# Altium integrated library Analog_Devices_Power_Management_Linear_Regulators.IntLib: 441 symbols (part 1 of 23)
Pins are listed as number, name and electrical type; pins without a type are passive.

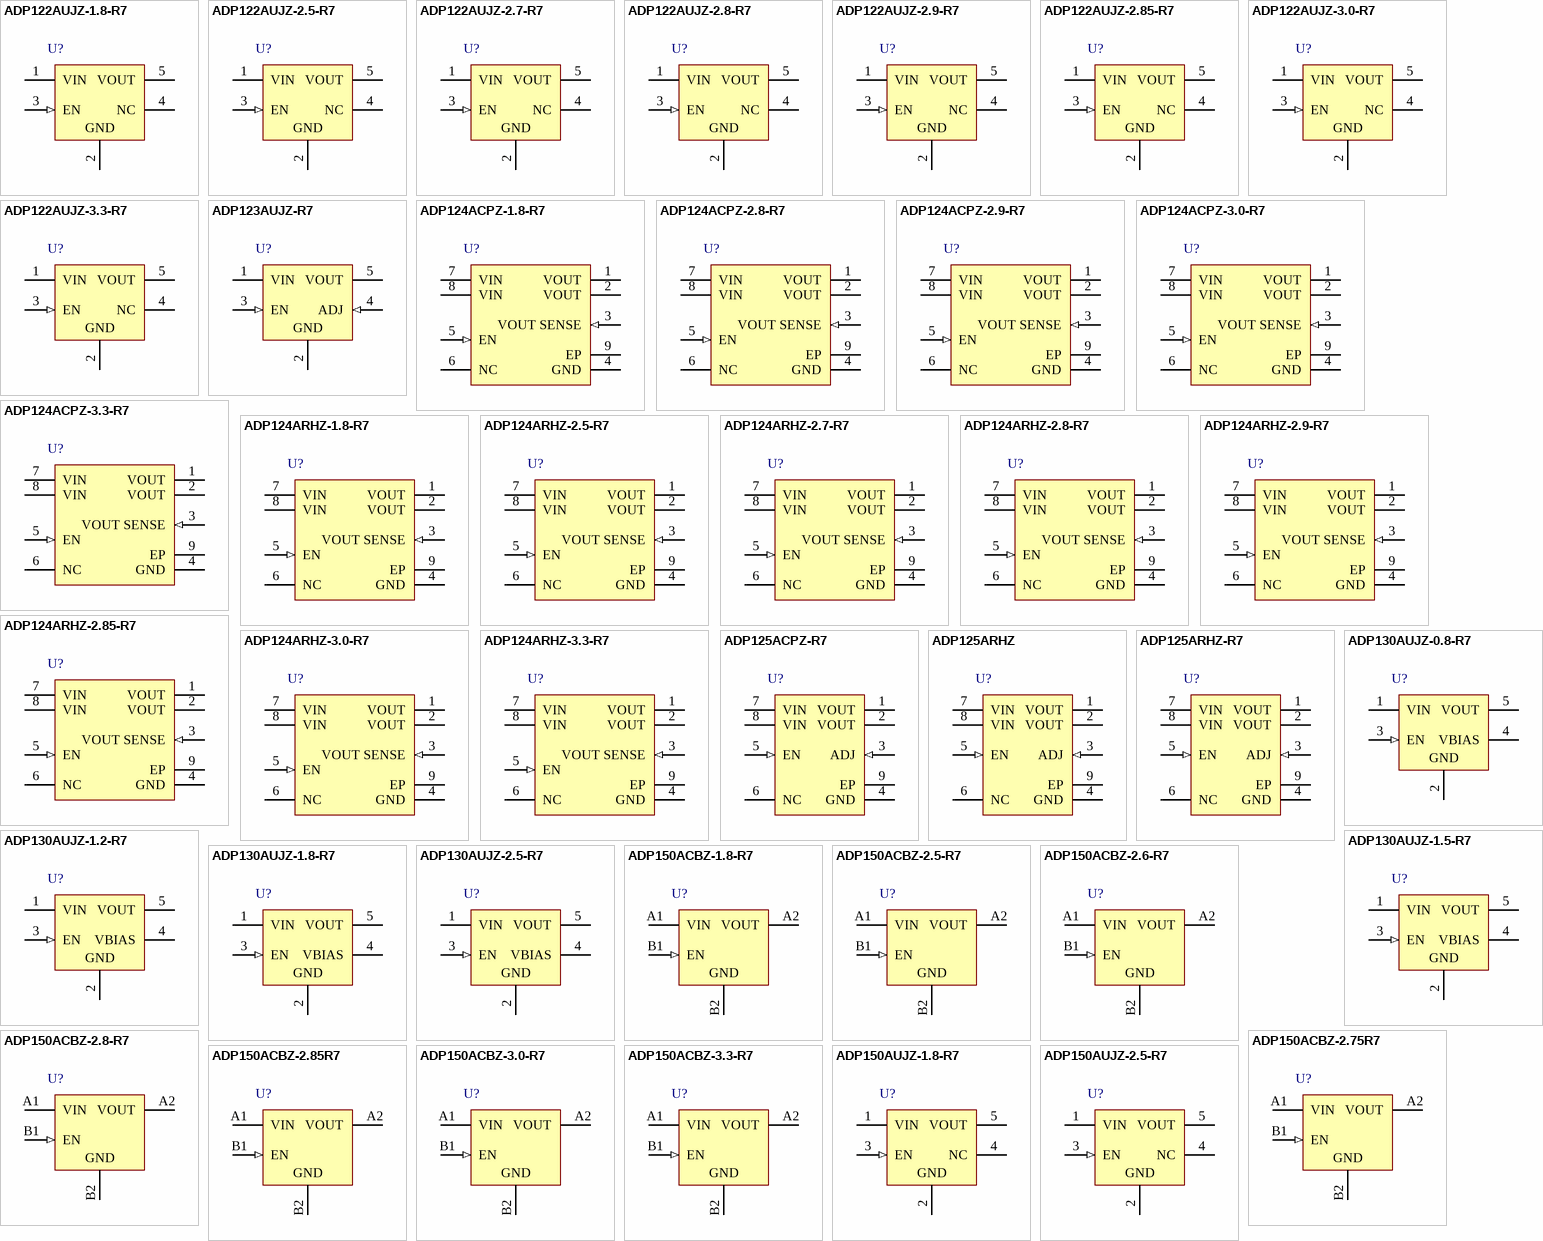
[diagram p0: symbols ADP122AUJZ-1.8-R7 to ADP150AUJZ-2.5-R7]

## ADP122AUJZ-1.8-R7
designator U?
300 mA, Low Quiescent Current, CMOS Linear Regulator, 2.3 to 5.5 V Vin, 1.8 V Vout, Industrial, 5-pin SOT23 (UJ-5), Reel; Manufacturer: Analog Devices; PartNumber: ADP122AUJZ-1.8-R7; Iout max: 300mA; Preset Vout Values (V): 1.8; Supply Current IGND @ Small Load: 45uA; Vin (max) (V): 5.5; Vin (min) (V): 2.3; DatasheetVersion: Rev. E; PackageVersion: 100708-A, 10/2008; PackageReference: UJ-5; PackageDescription: 5-Pin Thin Small Outline Transistor Package, Body 2.9 x 1.6 mm, Pitch 0.95 mm; Supplier 1: Newark; Supplier Part Number 1: 04X3007; Supplier 2: Mouser; Supplier Part Number 2: N/A; Packing: Reel; Mounting Technology: Surface Mount; Code_JEDEC: MO-193-AB; ComponentLink1Description: Manufacturer URL; ComponentLink1URL: http://www.analog.com/en/index.html; ComponentLink2Description: Datasheet; ComponentLink2URL: http://www.analog.com/static/imported-files/data_sheets/ADP122_123.pdf; ComponentLink3Description: Package Specification; ComponentLink3URL: http:/www.analog.com/static/imported-files/packages/PKG_PDF/TSOT(UJ)/UJ_5.pdf; ComponentLink4Description: URL Link1; ComponentLink4URL: Product URL:http://www.analog.com/en/ADP122/productSearch.html
footprint ADI-UJ-5_N (SOT23, 5-Leads, Body 2.9x1.6mm, Pitch 0.95mm, IPC Medium Density)
footprint ADI-UJ-5_L (SOT23, 5-Leads, Body 2.9x1.6mm, Pitch 0.95mm, IPC High Density)
footprint ADI-UJ-5_M (SOT23, 5-Leads, Body 2.9x1.6mm, Pitch 0.95mm, IPC Low Density)
pins: 1 VIN (power) "Regulator Input Supply. Bypass VIN to GND with a capacitor of at least 1 uF.", 2 GND (power) "Ground.", 3 EN (in) "Enable Input. Drive EN high to turn on the regulator; drive EN low to turn off the regulator. For automatic startup, connect EN to VIN.", 4 NC "No Connect. These pins are not internally bonded. They can be left floating or connected to ground.", 5 VOUT (power) "Regulated Output Voltage. Bypass VOUT to GND with a capacitor of at least 1 uF."

## ADP122AUJZ-2.5-R7
designator U?
300 mA, Low Quiescent Current, CMOS Linear Regulator, 2.3 to 5.5 V Vin, 2.5 V Vout, Industrial, 5-pin SOT23 (UJ-5), Reel; Manufacturer: Analog Devices; PartNumber: ADP122AUJZ-2.5-R7; Iout max: 300mA; Preset Vout Values (V): 2.5; Supply Current IGND @ Small Load: 45uA; Vin (max) (V): 5.5; Vin (min) (V): 2.3; DatasheetVersion: Rev. E; PackageVersion: 100708-A, 10/2008; PackageReference: UJ-5; PackageDescription: 5-Pin Thin Small Outline Transistor Package, Body 2.9 x 1.6 mm, Pitch 0.95 mm; Supplier 1: Digi-Key; Supplier Part Number 1: ADP122AUJZ-2.5-R7TR-ND; Supplier 2: Digi-Key; Supplier Part Number 2: ADP122AUJZ-2.5-R7CT-ND; Supplier 3: Digi-Key; Supplier Part Number 3: ADP122AUJZ-2.5-R7DKR-ND; Supplier 4: Farnell; Supplier Part Number 4: 2312867; Supplier 5: Newark; Supplier Part Number 5: 67W2679; Supplier 6: Newark; Supplier Part Number 6: 52R8075; Supplier 7: Mouser; Supplier Part Number 7: 584-ADP122AUJZ-2.5R7; Packing: Reel; Mounting Technology: Surface Mount; Code_JEDEC: MO-193-AB; ComponentLink1Description: Manufacturer URL; ComponentLink1URL: http://www.analog.com/en/index.html; ComponentLink2Description: Datasheet; ComponentLink2URL: http://www.analog.com/static/imported-files/data_sheets/ADP122_123.pdf; ComponentLink3Description: Package Specification; ComponentLink3URL: http:/www.analog.com/static/imported-files/packages/PKG_PDF/TSOT(UJ)/UJ_5.pdf; ComponentLink4Description: URL Link1; ComponentLink4URL: Product URL:http://www.analog.com/en/ADP122/productSearch.html
footprint ADI-UJ-5_N (SOT23, 5-Leads, Body 2.9x1.6mm, Pitch 0.95mm, IPC Medium Density)
footprint ADI-UJ-5_L (SOT23, 5-Leads, Body 2.9x1.6mm, Pitch 0.95mm, IPC High Density)
footprint ADI-UJ-5_M (SOT23, 5-Leads, Body 2.9x1.6mm, Pitch 0.95mm, IPC Low Density)
pins: 1 VIN (power) "Regulator Input Supply. Bypass VIN to GND with a capacitor of at least 1 uF.", 2 GND (power) "Ground.", 3 EN (in) "Enable Input. Drive EN high to turn on the regulator; drive EN low to turn off the regulator. For automatic startup, connect EN to VIN.", 4 NC "No Connect. These pins are not internally bonded. They can be left floating or connected to ground.", 5 VOUT (power) "Regulated Output Voltage. Bypass VOUT to GND with a capacitor of at least 1 uF."

## ADP122AUJZ-2.7-R7
designator U?
300 mA, Low Quiescent Current, CMOS Linear Regulator, 2.3 to 5.5 V Vin, 2.7 V Vout, Industrial, 5-pin SOT23 (UJ-5), Reel; Manufacturer: Analog Devices; PartNumber: ADP122AUJZ-2.7-R7; Iout max: 300mA; Preset Vout Values (V): 2.7; Supply Current IGND @ Small Load: 45uA; Vin (max) (V): 5.5; Vin (min) (V): 2.3; DatasheetVersion: Rev. E; PackageVersion: 100708-A, 10/2008; PackageReference: UJ-5; PackageDescription: 5-Pin Thin Small Outline Transistor Package, Body 2.9 x 1.6 mm, Pitch 0.95 mm; Supplier 1: Digi-Key; Supplier Part Number 1: ADP122AUJZ-2.7-R7TR-ND; Supplier 2: Digi-Key; Supplier Part Number 2: ADP122AUJZ-2.7-R7CT-ND; Supplier 3: Digi-Key; Supplier Part Number 3: ADP122AUJZ-2.7-R7DKR-ND; Supplier 4: Newark; Supplier Part Number 4: 52R8076; Supplier 5: Mouser; Supplier Part Number 5: 584-ADP122AUJZ-2.7R7; Packing: Reel; Mounting Technology: Surface Mount; Code_JEDEC: MO-193-AB; ComponentLink1Description: Manufacturer URL; ComponentLink1URL: http://www.analog.com/en/index.html; ComponentLink2Description: Datasheet; ComponentLink2URL: http://www.analog.com/static/imported-files/data_sheets/ADP122_123.pdf; ComponentLink3Description: Package Specification; ComponentLink3URL: http:/www.analog.com/static/imported-files/packages/PKG_PDF/TSOT(UJ)/UJ_5.pdf; ComponentLink4Description: URL Link1; ComponentLink4URL: Product URL:http://www.analog.com/en/ADP122/productSearch.html
footprint ADI-UJ-5_N (SOT23, 5-Leads, Body 2.9x1.6mm, Pitch 0.95mm, IPC Medium Density)
footprint ADI-UJ-5_L (SOT23, 5-Leads, Body 2.9x1.6mm, Pitch 0.95mm, IPC High Density)
footprint ADI-UJ-5_M (SOT23, 5-Leads, Body 2.9x1.6mm, Pitch 0.95mm, IPC Low Density)
pins: 1 VIN (power) "Regulator Input Supply. Bypass VIN to GND with a capacitor of at least 1 uF.", 2 GND (power) "Ground.", 3 EN (in) "Enable Input. Drive EN high to turn on the regulator; drive EN low to turn off the regulator. For automatic startup, connect EN to VIN.", 4 NC "No Connect. These pins are not internally bonded. They can be left floating or connected to ground.", 5 VOUT (power) "Regulated Output Voltage. Bypass VOUT to GND with a capacitor of at least 1 uF."

## ADP122AUJZ-2.8-R7
designator U?
300 mA, Low Quiescent Current, CMOS Linear Regulator, 2.3 to 5.5 V Vin, 2.8 V Vout, Industrial, 5-pin SOT23 (UJ-5), Reel; Manufacturer: Analog Devices; PartNumber: ADP122AUJZ-2.8-R7; Iout max: 300mA; Preset Vout Values (V): 2.8; Supply Current IGND @ Small Load: 45uA; Vin (max) (V): 5.5; Vin (min) (V): 2.3; DatasheetVersion: Rev. E; PackageVersion: 100708-A, 10/2008; PackageReference: UJ-5; PackageDescription: 5-Pin Thin Small Outline Transistor Package, Body 2.9 x 1.6 mm, Pitch 0.95 mm; Supplier 1: Digi-Key; Supplier Part Number 1: ADP122AUJZ-2.8-R7TR-ND; Supplier 2: Digi-Key; Supplier Part Number 2: ADP122AUJZ-2.8-R7CT-ND; Supplier 3: Digi-Key; Supplier Part Number 3: ADP122AUJZ-2.8-R7DKR-ND; Supplier 4: Newark; Supplier Part Number 4: 52R8077; Supplier 5: Mouser; Supplier Part Number 5: 584-ADP122AUJZ-2.8R7; Packing: Reel; Mounting Technology: Surface Mount; Code_JEDEC: MO-193-AB; ComponentLink1Description: Manufacturer URL; ComponentLink1URL: http://www.analog.com/en/index.html; ComponentLink2Description: Datasheet; ComponentLink2URL: http://www.analog.com/static/imported-files/data_sheets/ADP122_123.pdf; ComponentLink3Description: Package Specification; ComponentLink3URL: http:/www.analog.com/static/imported-files/packages/PKG_PDF/TSOT(UJ)/UJ_5.pdf; ComponentLink4Description: URL Link1; ComponentLink4URL: Product URL:http://www.analog.com/en/ADP122/productSearch.html
footprint ADI-UJ-5_N (SOT23, 5-Leads, Body 2.9x1.6mm, Pitch 0.95mm, IPC Medium Density)
footprint ADI-UJ-5_L (SOT23, 5-Leads, Body 2.9x1.6mm, Pitch 0.95mm, IPC High Density)
footprint ADI-UJ-5_M (SOT23, 5-Leads, Body 2.9x1.6mm, Pitch 0.95mm, IPC Low Density)
pins: 1 VIN (power) "Regulator Input Supply. Bypass VIN to GND with a capacitor of at least 1 uF.", 2 GND (power) "Ground.", 3 EN (in) "Enable Input. Drive EN high to turn on the regulator; drive EN low to turn off the regulator. For automatic startup, connect EN to VIN.", 4 NC "No Connect. These pins are not internally bonded. They can be left floating or connected to ground.", 5 VOUT (power) "Regulated Output Voltage. Bypass VOUT to GND with a capacitor of at least 1 uF."

## ADP122AUJZ-2.9-R7
designator U?
300 mA, Low Quiescent Current, CMOS Linear Regulator, 2.3 to 5.5 V Vin, 2.9 V Vout, Industrial, 5-pin SOT23 (UJ-5), Reel; Manufacturer: Analog Devices; PartNumber: ADP122AUJZ-2.9-R7; Iout max: 300mA; Preset Vout Values (V): 2.9; Supply Current IGND @ Small Load: 45uA; Vin (max) (V): 5.5; Vin (min) (V): 2.3; DatasheetVersion: Rev. E; PackageVersion: 100708-A, 10/2008; PackageReference: UJ-5; PackageDescription: 5-Pin Thin Small Outline Transistor Package, Body 2.9 x 1.6 mm, Pitch 0.95 mm; Supplier 1: Digi-Key; Supplier Part Number 1: ADP122AUJZ-2.9-R7TR-ND; Supplier 2: Digi-Key; Supplier Part Number 2: ADP122AUJZ-2.9-R7CT-ND; Supplier 3: Digi-Key; Supplier Part Number 3: ADP122AUJZ-2.9-R7DKR-ND; Supplier 4: Mouser; Supplier Part Number 4: 584-ADP122AUJZ-2.9R7; Packing: Reel; Mounting Technology: Surface Mount; Code_JEDEC: MO-193-AB; ComponentLink1Description: Manufacturer URL; ComponentLink1URL: http://www.analog.com/en/index.html; ComponentLink2Description: Datasheet; ComponentLink2URL: http://www.analog.com/static/imported-files/data_sheets/ADP122_123.pdf; ComponentLink3Description: Package Specification; ComponentLink3URL: http:/www.analog.com/static/imported-files/packages/PKG_PDF/TSOT(UJ)/UJ_5.pdf; ComponentLink4Description: URL Link1; ComponentLink4URL: Product URL:http://www.analog.com/en/ADP122/productSearch.html
footprint ADI-UJ-5_N (SOT23, 5-Leads, Body 2.9x1.6mm, Pitch 0.95mm, IPC Medium Density)
footprint ADI-UJ-5_L (SOT23, 5-Leads, Body 2.9x1.6mm, Pitch 0.95mm, IPC High Density)
footprint ADI-UJ-5_M (SOT23, 5-Leads, Body 2.9x1.6mm, Pitch 0.95mm, IPC Low Density)
pins: 1 VIN (power) "Regulator Input Supply. Bypass VIN to GND with a capacitor of at least 1 uF.", 2 GND (power) "Ground.", 3 EN (in) "Enable Input. Drive EN high to turn on the regulator; drive EN low to turn off the regulator. For automatic startup, connect EN to VIN.", 4 NC "No Connect. These pins are not internally bonded. They can be left floating or connected to ground.", 5 VOUT (power) "Regulated Output Voltage. Bypass VOUT to GND with a capacitor of at least 1 uF."

## ADP122AUJZ-2.85-R7
designator U?
300 mA, Low Quiescent Current, CMOS Linear Regulator, 2.3 to 5.5 V Vin, 2.85 V Vout, Industrial, 5-pin SOT23 (UJ-5), Reel; Manufacturer: Analog Devices; PartNumber: ADP122AUJZ-2.85-R7; Iout max: 300mA; Preset Vout Values (V): 2.85; Supply Current IGND @ Small Load: 45uA; Vin (max) (V): 5.5; Vin (min) (V): 2.3; DatasheetVersion: Rev. E; PackageVersion: 100708-A, 10/2008; PackageReference: UJ-5; PackageDescription: 5-Pin Thin Small Outline Transistor Package, Body 2.9 x 1.6 mm, Pitch 0.95 mm; Supplier 1: Digi-Key; Supplier Part Number 1: ADP122AUJZ-2.85-R7TR-ND; Supplier 2: Digi-Key; Supplier Part Number 2: ADP122AUJZ-2.85-R7CT-ND; Supplier 3: Digi-Key; Supplier Part Number 3: ADP122AUJZ-2.85-R7DKR-ND; Supplier 4: Mouser; Supplier Part Number 4: 584-ADP122AUJZ2.85R7; Packing: Reel; Mounting Technology: Surface Mount; Code_JEDEC: MO-193-AB; ComponentLink1Description: Manufacturer URL; ComponentLink1URL: http://www.analog.com/en/index.html; ComponentLink2Description: Datasheet; ComponentLink2URL: http://www.analog.com/static/imported-files/data_sheets/ADP122_123.pdf; ComponentLink3Description: Package Specification; ComponentLink3URL: http:/www.analog.com/static/imported-files/packages/PKG_PDF/TSOT(UJ)/UJ_5.pdf; ComponentLink4Description: URL Link1; ComponentLink4URL: Product URL:http://www.analog.com/en/ADP122/productSearch.html
footprint ADI-UJ-5_N (SOT23, 5-Leads, Body 2.9x1.6mm, Pitch 0.95mm, IPC Medium Density)
footprint ADI-UJ-5_L (SOT23, 5-Leads, Body 2.9x1.6mm, Pitch 0.95mm, IPC High Density)
footprint ADI-UJ-5_M (SOT23, 5-Leads, Body 2.9x1.6mm, Pitch 0.95mm, IPC Low Density)
pins: 1 VIN (power) "Regulator Input Supply. Bypass VIN to GND with a capacitor of at least 1 uF.", 2 GND (power) "Ground.", 3 EN (in) "Enable Input. Drive EN high to turn on the regulator; drive EN low to turn off the regulator. For automatic startup, connect EN to VIN.", 4 NC "No Connect. These pins are not internally bonded. They can be left floating or connected to ground.", 5 VOUT (power) "Regulated Output Voltage. Bypass VOUT to GND with a capacitor of at least 1 uF."

## ADP122AUJZ-3.0-R7
designator U?
300 mA, Low Quiescent Current, CMOS Linear Regulator, 2.3 to 5.5 V Vin, 3 V Vout, Industrial, 5-pin SOT23 (UJ-5), Reel; Manufacturer: Analog Devices; PartNumber: ADP122AUJZ-3.0-R7; Iout max: 300mA; Preset Vout Values (V): 3.0; Supply Current IGND @ Small Load: 45uA; Vin (max) (V): 5.5; Vin (min) (V): 2.3; DatasheetVersion: Rev. E; PackageVersion: 100708-A, 10/2008; PackageReference: UJ-5; PackageDescription: 5-Pin Thin Small Outline Transistor Package, Body 2.9 x 1.6 mm, Pitch 0.95 mm; Supplier 1: Digi-Key; Supplier Part Number 1: ADP122AUJZ-3.0-R7TR-ND; Supplier 2: Digi-Key; Supplier Part Number 2: ADP122AUJZ-3.0-R7CT-ND; Supplier 3: Digi-Key; Supplier Part Number 3: ADP122AUJZ-3.0-R7DKR-ND; Supplier 4: Farnell; Supplier Part Number 4: 2312868; Supplier 5: Newark; Supplier Part Number 5: 67W2680; Supplier 6: Newark; Supplier Part Number 6: 52R8080; Supplier 7: Mouser; Supplier Part Number 7: 584-ADP122AUJZ-3.0R7; Packing: Reel; Mounting Technology: Surface Mount; Code_JEDEC: MO-193-AB; ComponentLink1Description: Manufacturer URL; ComponentLink1URL: http://www.analog.com/en/index.html; ComponentLink2Description: Datasheet; ComponentLink2URL: http://www.analog.com/static/imported-files/data_sheets/ADP122_123.pdf; ComponentLink3Description: Package Specification; ComponentLink3URL: http:/www.analog.com/static/imported-files/packages/PKG_PDF/TSOT(UJ)/UJ_5.pdf; ComponentLink4Description: URL Link1; ComponentLink4URL: Product URL:http://www.analog.com/en/ADP122/productSearch.html
footprint ADI-UJ-5_N (SOT23, 5-Leads, Body 2.9x1.6mm, Pitch 0.95mm, IPC Medium Density)
footprint ADI-UJ-5_L (SOT23, 5-Leads, Body 2.9x1.6mm, Pitch 0.95mm, IPC High Density)
footprint ADI-UJ-5_M (SOT23, 5-Leads, Body 2.9x1.6mm, Pitch 0.95mm, IPC Low Density)
pins: 1 VIN (power) "Regulator Input Supply. Bypass VIN to GND with a capacitor of at least 1 uF.", 2 GND (power) "Ground.", 3 EN (in) "Enable Input. Drive EN high to turn on the regulator; drive EN low to turn off the regulator. For automatic startup, connect EN to VIN.", 4 NC "No Connect. These pins are not internally bonded. They can be left floating or connected to ground.", 5 VOUT (power) "Regulated Output Voltage. Bypass VOUT to GND with a capacitor of at least 1 uF."

## ADP122AUJZ-3.3-R7
designator U?
300 mA, Low Quiescent Current, CMOS Linear Regulator, 2.3 to 5.5 V Vin, 3.3 V Vout, Industrial, 5-pin SOT23 (UJ-5), Reel; Manufacturer: Analog Devices; PartNumber: ADP122AUJZ-3.3-R7; Iout max: 300mA; Preset Vout Values (V): 3.3; Supply Current IGND @ Small Load: 45uA; Vin (max) (V): 5.5; Vin (min) (V): 2.3; DatasheetVersion: Rev. E; PackageVersion: 100708-A, 10/2008; PackageReference: UJ-5; PackageDescription: 5-Pin Thin Small Outline Transistor Package, Body 2.9 x 1.6 mm, Pitch 0.95 mm; Supplier 1: Digi-Key; Supplier Part Number 1: ADP122AUJZ-3.3-R7TR-ND; Supplier 2: Digi-Key; Supplier Part Number 2: ADP122AUJZ-3.3-R7CT-ND; Supplier 3: Digi-Key; Supplier Part Number 3: ADP122AUJZ-3.3-R7DKR-ND; Supplier 4: Farnell; Supplier Part Number 4: 1858064RL; Supplier 5: Farnell; Supplier Part Number 5: 1858064; Supplier 6: Newark; Supplier Part Number 6: 60R3274; Supplier 7: Newark; Supplier Part Number 7: 52R8081; Supplier 8: Mouser; Supplier Part Number 8: 584-ADP122AUJZ-3.3R7; Packing: Reel; Mounting Technology: Surface Mount; Code_JEDEC: MO-193-AB; ComponentLink1Description: Manufacturer URL; ComponentLink1URL: http://www.analog.com/en/index.html; ComponentLink2Description: Datasheet; ComponentLink2URL: http://www.analog.com/static/imported-files/data_sheets/ADP122_123.pdf; ComponentLink3Description: Package Specification; ComponentLink3URL: http:/www.analog.com/static/imported-files/packages/PKG_PDF/TSOT(UJ)/UJ_5.pdf; ComponentLink4Description: URL Link1; ComponentLink4URL: Product URL:http://www.analog.com/en/ADP122/productSearch.html
footprint ADI-UJ-5_N (SOT23, 5-Leads, Body 2.9x1.6mm, Pitch 0.95mm, IPC Medium Density)
footprint ADI-UJ-5_L (SOT23, 5-Leads, Body 2.9x1.6mm, Pitch 0.95mm, IPC High Density)
footprint ADI-UJ-5_M (SOT23, 5-Leads, Body 2.9x1.6mm, Pitch 0.95mm, IPC Low Density)
pins: 1 VIN (power) "Regulator Input Supply. Bypass VIN to GND with a capacitor of at least 1 uF.", 2 GND (power) "Ground.", 3 EN (in) "Enable Input. Drive EN high to turn on the regulator; drive EN low to turn off the regulator. For automatic startup, connect EN to VIN.", 4 NC "No Connect. These pins are not internally bonded. They can be left floating or connected to ground.", 5 VOUT (power) "Regulated Output Voltage. Bypass VOUT to GND with a capacitor of at least 1 uF."

## ADP123AUJZ-R7
designator U?
300 mA, Low Quiescent Current, CMOS Linear Regulator, 2.3 to 5.5 V Vin, 0.8 to 5 V Vout, Industrial, 5-pin SOT23 (UJ-5), Reel; Manufacturer: Analog Devices; PartNumber: ADP123AUJZ-R7; Iout max: 300mA; Supply Current IGND @ Small Load: 45uA; Vin (max) (V): 5.5; Vin (min) (V): 2.3; Vout Adjustable Range: 0.8V to 5V; DatasheetVersion: Rev. E; PackageVersion: 100708-A, 10/2008; PackageReference: UJ-5; PackageDescription: 5-Pin Thin Small Outline Transistor Package, Body 2.9 x 1.6 mm, Pitch 0.95 mm; Supplier 1: Digi-Key; Supplier Part Number 1: ADP123AUJZ-R7TR-ND; Supplier 2: Digi-Key; Supplier Part Number 2: ADP123AUJZ-R7CT-ND; Supplier 3: Digi-Key; Supplier Part Number 3: ADP123AUJZ-R7DKR-ND; Supplier 4: Farnell; Supplier Part Number 4: 2296039; Supplier 5: Newark; Supplier Part Number 5: 12T2968; Supplier 6: Newark; Supplier Part Number 6: 52R8082; Supplier 7: Mouser; Supplier Part Number 7: 584-ADP123AUJZ-R7; Packing: Reel; Mounting Technology: Surface Mount; Code_JEDEC: MO-193-AB; ComponentLink1Description: Manufacturer URL; ComponentLink1URL: http://www.analog.com/en/index.html; ComponentLink2Description: Datasheet; ComponentLink2URL: http://www.analog.com/static/imported-files/data_sheets/ADP122_123.pdf; ComponentLink3Description: Package Specification; ComponentLink3URL: http:/www.analog.com/static/imported-files/packages/PKG_PDF/TSOT(UJ)/UJ_5.pdf; ComponentLink4Description: URL Link1; ComponentLink4URL: Product URL:http://www.analog.com/en/ADP123/productSearch.html
footprint ADI-UJ-5_N (SOT23, 5-Leads, Body 2.9x1.6mm, Pitch 0.95mm, IPC Medium Density)
footprint ADI-UJ-5_L (SOT23, 5-Leads, Body 2.9x1.6mm, Pitch 0.95mm, IPC High Density)
footprint ADI-UJ-5_M (SOT23, 5-Leads, Body 2.9x1.6mm, Pitch 0.95mm, IPC Low Density)
pins: 1 VIN (power) "Regulator Input Supply. Bypass VIN to GND with a capacitor of at least 1 uF.", 2 GND (power) "Ground.", 3 EN (in) "Enable Input. Drive EN high to turn on the regulator; drive EN low to turn off the regulator. For automatic startup, connect EN to VIN.", 4 ADJ (in) "Output Voltage Adjust Pin. Connect the midpoint of the voltage divider between VOUT and GND to this pin to set the output voltage.", 5 VOUT (power) "Regulated Output Voltage. Bypass VOUT to GND with a capacitor of at least 1 uF."

## ADP124ACPZ-1.8-R7
designator U?
500 mA, Low Quiescent Current, CMOS Linear Regulator, 2.3 to 5.5 V Vin, 1.8 V Vout, Industrial, 8-pin SON (CP-8-8), Reel; Manufacturer: Analog Devices; PartNumber: ADP124ACPZ-1.8-R7; Iout max: 500mA; Preset Vout Values (V): 1.8; Supply Current IGND @ Small Load: 45uA; Vin (max) (V): 5.5; Vin (min) (V): 2.3; DatasheetVersion: Rev. C; PackageVersion: 101028-A, 10/2008; PackageReference: CP-8-8; PackageDescription: 8-Pin Lead Frame Chip Scale Package, Body 2 x 2 mm, Pitch 0.5 mm; Supplier 1: Digi-Key; Supplier Part Number 1: ADP124ACPZ-1.8-R7TR-ND; Supplier 2: Digi-Key; Supplier Part Number 2: ADP124ACPZ-1.8-R7CT-ND; Supplier 3: Digi-Key; Supplier Part Number 3: ADP124ACPZ-1.8-R7DKR-ND; Supplier 4: Newark; Supplier Part Number 4: 18T2005; Supplier 5: Mouser; Supplier Part Number 5: 584-ADP124ACPZ-1.8R7; Packing: Reel; Mounting Technology: Surface Mount; ComponentLink1Description: Manufacturer URL; ComponentLink1URL: http://www.analog.com/en/index.html; ComponentLink2Description: Datasheet; ComponentLink2URL: http://www.analog.com/static/imported-files/data_sheets/ADP124_125.pdf; ComponentLink3Description: Package Specification; ComponentLink3URL: http:/www.analog.com/static/imported-files/packages/PKG_PDF/LFCSP(CP)/CP_8_8.pdf; ComponentLink4Description: URL Link1; ComponentLink4URL: Product URL:http://www.analog.com/en/ADP124/productSearch.html
footprint ADI-CP-8-8_V (SON, 8-Leads, Body 2x2mm, Pitch 0.5mm, Thermal Pad 1.6x1mm)
pins: 1 VOUT (power) "Regulated Output Voltage. Bypass VOUT to GND with a 1 uF or greater capacitor.", 2 VOUT (power) "Regulated Output Voltage. Bypass VOUT to GND with a 1 uF or greater capacitor.", 3 VOUT SENSE (in) "Feedback Node for the Error Amplifier. Connect to VOUT", 4 GND (power) "Ground.", 5 EN (in) "Enable Input. Drive EN high to turn on the regulator; drive EN low to turn off the regulator. For automatic startup, connect EN to VIN.", 6 NC "No Connect. This pin is not connected internally.", 7 VIN (power) "Regulator Input Supply. Bypass VIN to GND with a 1 uF or greater capacitor.", 8 VIN (power) "Regulator Input Supply. Bypass VIN to GND with a 1 uF or greater capacitor.", 9 EP (power) "The exposed pad must be connected to ground."

## ADP124ACPZ-2.8-R7
designator U?
500 mA, Low Quiescent Current, CMOS Linear Regulators, 2.3 to 5.5 V Vin, 2.8 V Vout, Industrial, 8-pin SON (CP-8-8), Reel; Manufacturer: Analog Devices; PartNumber: ADP124ACPZ-2.8-R7; Iout max: 500mA; Preset Vout Values (V): 2.8; Supply Current IGND @ Small Load: 45uA; Vin (max) (V): 5.5; Vin (min) (V): 2.3; DatasheetVersion: Rev. C; PackageVersion: 101028-A, 10/2008; PackageReference: CP-8-8; PackageDescription: 8-Pin Lead Frame Chip Scale Package, Body 2 x 2 mm, Pitch 0.5 mm; Supplier 1: Digi-Key; Supplier Part Number 1: ADP124ACPZ-2.8-R7TR-ND; Supplier 2: Digi-Key; Supplier Part Number 2: ADP124ACPZ-2.8-R7CT-ND; Supplier 3: Digi-Key; Supplier Part Number 3: ADP124ACPZ-2.8-R7DKR-ND; Supplier 4: Mouser; Supplier Part Number 4: 584-ADP124ACPZ-2.8R7; Packing: Reel; Mounting Technology: Surface Mount; ComponentLink1Description: Manufacturer URL; ComponentLink1URL: http://www.analog.com/en/index.html; ComponentLink2Description: Datasheet; ComponentLink2URL: http://www.analog.com/static/imported-files/data_sheets/ADP124_125.pdf; ComponentLink3Description: Package Specification; ComponentLink3URL: http:/www.analog.com/static/imported-files/packages/PKG_PDF/LFCSP(CP)/CP_8_8.pdf; ComponentLink4Description: URL Link1; ComponentLink4URL: Product URL:http://www.analog.com/en/ADP124/productSearch.html
footprint ADI-CP-8-8_V (SON, 8-Leads, Body 2x2mm, Pitch 0.5mm, Thermal Pad 1.6x1mm)
pins: 1 VOUT (power) "Regulated Output Voltage. Bypass VOUT to GND with a 1 uF or greater capacitor.", 2 VOUT (power) "Regulated Output Voltage. Bypass VOUT to GND with a 1 uF or greater capacitor.", 3 VOUT SENSE (in) "Feedback Node for the Error Amplifier. Connect to VOUT", 4 GND (power) "Ground.", 5 EN (in) "Enable Input. Drive EN high to turn on the regulator; drive EN low to turn off the regulator. For automatic startup, connect EN to VIN.", 6 NC "No Connect. This pin is not connected internally.", 7 VIN (power) "Regulator Input Supply. Bypass VIN to GND with a 1 uF or greater capacitor.", 8 VIN (power) "Regulator Input Supply. Bypass VIN to GND with a 1 uF or greater capacitor.", 9 EP (power) "The exposed pad must be connected to ground."

## ADP124ACPZ-2.9-R7
designator U?
500 mA, Low Quiescent Current, CMOS Linear Regulators, 2.3 to 5.5 V Vin, 2.9 V Vout, Industrial, 8-pin SON (CP-8-8), Reel; Manufacturer: Analog Devices; PartNumber: ADP124ACPZ-2.9-R7; Iout max: 500mA; Preset Vout Values (V): 2.9; Supply Current IGND @ Small Load: 45uA; Vin (max) (V): 5.5; Vin (min) (V): 2.3; DatasheetVersion: Rev. C; PackageVersion: 101028-A, 10/2008; PackageReference: CP-8-8; PackageDescription: 8-Pin Lead Frame Chip Scale Package, Body 2 x 2 mm, Pitch 0.5 mm; Supplier 1: Digi-Key; Supplier Part Number 1: ADP124ACPZ-2.9-R7TR-ND; Supplier 2: Digi-Key; Supplier Part Number 2: ADP124ACPZ-2.9-R7CT-ND; Supplier 3: Digi-Key; Supplier Part Number 3: ADP124ACPZ-2.9-R7DKR-ND; Supplier 4: Mouser; Supplier Part Number 4: 584-ADP124ACPZ-2.9R7; Packing: Reel; Mounting Technology: Surface Mount; ComponentLink1Description: Manufacturer URL; ComponentLink1URL: http://www.analog.com/en/index.html; ComponentLink2Description: Datasheet; ComponentLink2URL: http://www.analog.com/static/imported-files/data_sheets/ADP124_125.pdf; ComponentLink3Description: Package Specification; ComponentLink3URL: http:/www.analog.com/static/imported-files/packages/PKG_PDF/LFCSP(CP)/CP_8_8.pdf; ComponentLink4Description: URL Link1; ComponentLink4URL: Product URL:http://www.analog.com/en/ADP124/productSearch.html
footprint ADI-CP-8-8_V (SON, 8-Leads, Body 2x2mm, Pitch 0.5mm, Thermal Pad 1.6x1mm)
pins: 1 VOUT (power) "Regulated Output Voltage. Bypass VOUT to GND with a 1 uF or greater capacitor.", 2 VOUT (power) "Regulated Output Voltage. Bypass VOUT to GND with a 1 uF or greater capacitor.", 3 VOUT SENSE (in) "Feedback Node for the Error Amplifier. Connect to VOUT", 4 GND (power) "Ground.", 5 EN (in) "Enable Input. Drive EN high to turn on the regulator; drive EN low to turn off the regulator. For automatic startup, connect EN to VIN.", 6 NC "No Connect. This pin is not connected internally.", 7 VIN (power) "Regulator Input Supply. Bypass VIN to GND with a 1 uF or greater capacitor.", 8 VIN (power) "Regulator Input Supply. Bypass VIN to GND with a 1 uF or greater capacitor.", 9 EP (power) "The exposed pad must be connected to ground."

## ADP124ACPZ-3.0-R7
designator U?
500 mA, Low Quiescent Current, CMOS Linear Regulator, 2.3 to 5.5 V Vin, 3 V Vout, Industrial, 8-pin SON (CP-8-8), Reel; Manufacturer: Analog Devices; PartNumber: ADP124ACPZ-3.0-R7; Iout max: 500mA; Preset Vout Values (V): 3.0; Supply Current IGND @ Small Load: 45uA; Vin (max) (V): 5.5; Vin (min) (V): 2.3; DatasheetVersion: Rev. C; PackageVersion: 101028-A, 10/2008; PackageReference: CP-8-8; PackageDescription: 8-Pin Lead Frame Chip Scale Package, Body 2 x 2 mm, Pitch 0.5 mm; Supplier 1: Digi-Key; Supplier Part Number 1: ADP124ACPZ-3.0-R7TR-ND; Supplier 2: Digi-Key; Supplier Part Number 2: ADP124ACPZ-3.0-R7CT-ND; Supplier 3: Digi-Key; Supplier Part Number 3: ADP124ACPZ-3.0-R7DKR-ND; Supplier 4: Newark; Supplier Part Number 4: 18T2007; Supplier 5: Mouser; Supplier Part Number 5: 584-ADP124ACPZ-3.0R7; Packing: Reel; Mounting Technology: Surface Mount; ComponentLink1Description: Manufacturer URL; ComponentLink1URL: http://www.analog.com/en/index.html; ComponentLink2Description: Datasheet; ComponentLink2URL: http://www.analog.com/static/imported-files/data_sheets/ADP124_125.pdf; ComponentLink3Description: Package Specification; ComponentLink3URL: http:/www.analog.com/static/imported-files/packages/PKG_PDF/LFCSP(CP)/CP_8_8.pdf; ComponentLink4Description: URL Link1; ComponentLink4URL: Product URL:http://www.analog.com/en/ADP124/productSearch.html
footprint ADI-CP-8-8_V (SON, 8-Leads, Body 2x2mm, Pitch 0.5mm, Thermal Pad 1.6x1mm)
pins: 1 VOUT (power) "Regulated Output Voltage. Bypass VOUT to GND with a 1 uF or greater capacitor.", 2 VOUT (power) "Regulated Output Voltage. Bypass VOUT to GND with a 1 uF or greater capacitor.", 3 VOUT SENSE (in) "Feedback Node for the Error Amplifier. Connect to VOUT", 4 GND (power) "Ground.", 5 EN (in) "Enable Input. Drive EN high to turn on the regulator; drive EN low to turn off the regulator. For automatic startup, connect EN to VIN.", 6 NC "No Connect. This pin is not connected internally.", 7 VIN (power) "Regulator Input Supply. Bypass VIN to GND with a 1 uF or greater capacitor.", 8 VIN (power) "Regulator Input Supply. Bypass VIN to GND with a 1 uF or greater capacitor.", 9 EP (power) "The exposed pad must be connected to ground."

## ADP124ACPZ-3.3-R7
designator U?
500 mA, Low Quiescent Current, CMOS Linear Regulator, 2.3 to 5.5 V Vin, 3.3 V Vout, Industrial, 8-pin SON (CP-8-8), Reel; Manufacturer: Analog Devices; PartNumber: ADP124ACPZ-3.3-R7; Iout max: 500mA; Preset Vout Values (V): 3.3; Supply Current IGND @ Small Load: 45uA; Vin (max) (V): 5.5; Vin (min) (V): 2.3; DatasheetVersion: Rev. C; PackageVersion: 101028-A, 10/2008; PackageReference: CP-8-8; PackageDescription: 8-Pin Lead Frame Chip Scale Package, Body 2 x 2 mm, Pitch 0.5 mm; Supplier 1: Digi-Key; Supplier Part Number 1: ADP124ACPZ-3.3-R7TR-ND; Supplier 2: Digi-Key; Supplier Part Number 2: ADP124ACPZ-3.3-R7CT-ND; Supplier 3: Digi-Key; Supplier Part Number 3: ADP124ACPZ-3.3-R7DKR-ND; Supplier 4: Newark; Supplier Part Number 4: 18T2008; Supplier 5: Mouser; Supplier Part Number 5: 584-ADP124ACPZ-3.3R7; Packing: Reel; Mounting Technology: Surface Mount; ComponentLink1Description: Manufacturer URL; ComponentLink1URL: http://www.analog.com/en/index.html; ComponentLink2Description: Datasheet; ComponentLink2URL: http://www.analog.com/static/imported-files/data_sheets/ADP124_125.pdf; ComponentLink3Description: Package Specification; ComponentLink3URL: http:/www.analog.com/static/imported-files/packages/PKG_PDF/LFCSP(CP)/CP_8_8.pdf; ComponentLink4Description: URL Link1; ComponentLink4URL: Product URL:http://www.analog.com/en/ADP124/productSearch.html
footprint ADI-CP-8-8_V (SON, 8-Leads, Body 2x2mm, Pitch 0.5mm, Thermal Pad 1.6x1mm)
pins: 1 VOUT (power) "Regulated Output Voltage. Bypass VOUT to GND with a 1 uF or greater capacitor.", 2 VOUT (power) "Regulated Output Voltage. Bypass VOUT to GND with a 1 uF or greater capacitor.", 3 VOUT SENSE (in) "Feedback Node for the Error Amplifier. Connect to VOUT", 4 GND (power) "Ground.", 5 EN (in) "Enable Input. Drive EN high to turn on the regulator; drive EN low to turn off the regulator. For automatic startup, connect EN to VIN.", 6 NC "No Connect. This pin is not connected internally.", 7 VIN (power) "Regulator Input Supply. Bypass VIN to GND with a 1 uF or greater capacitor.", 8 VIN (power) "Regulator Input Supply. Bypass VIN to GND with a 1 uF or greater capacitor.", 9 EP (power) "The exposed pad must be connected to ground."

## ADP124ARHZ-1.8-R7
designator U?
500 mA, Low Quiescent Current, CMOS Linear Regulator, 2.3 to 5.5 V Vin, 1.8 V Vout, Industrial, 8-pin SOP (RH-8-1), Reel; Manufacturer: Analog Devices; PartNumber: ADP124ARHZ-1.8-R7; Iout max: 500mA; Preset Vout Values (V): 1.8; Supply Current IGND @ Small Load: 45uA; Vin (max) (V): 5.5; Vin (min) (V): 2.3; DatasheetVersion: Rev. C; PackageVersion: 071008-A, 08/2008; PackageReference: RH-8-1; PackageDescription: 8-Pin Mini Small Outline Package, Body 3 x 3 mm, Pitch 0.65 mm; Supplier 1: Digi-Key; Supplier Part Number 1: ADP124ARHZ-1.8-R7TR-ND; Supplier 2: Digi-Key; Supplier Part Number 2: ADP124ARHZ-1.8-R7CT-ND; Supplier 3: Digi-Key; Supplier Part Number 3: ADP124ARHZ-1.8-R7DKR-ND; Supplier 4: Farnell; Supplier Part Number 4: 2312869; Supplier 5: Newark; Supplier Part Number 5: 63R9745; Supplier 6: Newark; Supplier Part Number 6: 67W2681; Supplier 7: Mouser; Supplier Part Number 7: 584-ADP124ARHZ-1.8R7; Packing: Reel; Mounting Technology: Surface Mount; Code_JEDEC: MO-187-AA-T; ComponentLink1Description: Manufacturer URL; ComponentLink1URL: http://www.analog.com/en/index.html; ComponentLink2Description: Datasheet; ComponentLink2URL: http://www.analog.com/static/imported-files/data_sheets/ADP124_125.pdf; ComponentLink3Description: Package Specification; ComponentLink3URL: http://www.analog.com/static/imported-files/packages/PKG_PDF/MSOP_ED(RH)/RH_8_1.pdf; ComponentLink4Description: URL Link1; ComponentLink4URL: Product URL:http://www.analog.com/en/ADP124/productSearch.html
footprint ADI-RH-8-1_N (SOP, 8-Leads, Body 3x3mm, Pitch 0.65mm, Thermal Pad 1.73x2.16mm, IPC Medium Density)
footprint ADI-RH-8-1_L (SOP, 8-Leads, Body 3x3mm, Pitch 0.65mm, Thermal Pad 1.73x2.16mm, IPC High Density)
footprint ADI-RH-8-1_M (SOP, 8-Leads, Body 3x3mm, Pitch 0.65mm, Thermal Pad 1.73x2.16mm, IPC Low Density)
pins: 1 VOUT (power) "Regulated Output Voltage. Bypass VOUT to GND with a 1 uF or greater capacitor.", 2 VOUT (power) "Regulated Output Voltage. Bypass VOUT to GND with a 1 uF or greater capacitor.", 3 VOUT SENSE (in) "Feedback Node for the Error Amplifier. Connect to VOUT", 4 GND (power) "Ground.", 5 EN (in) "Enable Input. Drive EN high to turn on the regulator; drive EN low to turn off the regulator. For automatic startup, connect EN to VIN.", 6 NC "No Connect. This pin is not connected internally.", 7 VIN (power) "Regulator Input Supply. Bypass VIN to GND with a 1 uF or greater capacitor.", 8 VIN (power) "Regulator Input Supply. Bypass VIN to GND with a 1 uF or greater capacitor.", 9 EP (power) "The exposed pad must be connected to ground."

## ADP124ARHZ-2.5-R7
designator U?
500 mA, Low Quiescent Current, CMOS Linear Regulator, 2.3 to 5.5 V Vin, 2.5 V Vout, Industrial, 8-pin SOP (RH-8-1), Reel; Manufacturer: Analog Devices; PartNumber: ADP124ARHZ-2.5-R7; Iout max: 500mA; Preset Vout Values (V): 2.5; Supply Current IGND @ Small Load: 45uA; Vin (max) (V): 5.5; Vin (min) (V): 2.3; DatasheetVersion: Rev. C; PackageVersion: 071008-A, 08/2008; PackageReference: RH-8-1; PackageDescription: 8-Pin Mini Small Outline Package, Body 3 x 3 mm, Pitch 0.65 mm; Supplier 1: Digi-Key; Supplier Part Number 1: ADP124ARHZ-2.5-R7TR-ND; Supplier 2: Digi-Key; Supplier Part Number 2: ADP124ARHZ-2.5-R7CT-ND; Supplier 3: Digi-Key; Supplier Part Number 3: ADP124ARHZ-2.5-R7DKR-ND; Supplier 4: Farnell; Supplier Part Number 4: 1827295; Supplier 5: Farnell; Supplier Part Number 5: 1827295RL; Supplier 6: Newark; Supplier Part Number 6: 63R9746; Supplier 7: Newark; Supplier Part Number 7: 67W2682; Supplier 8: Mouser; Supplier Part Number 8: 584-ADP124ARHZ-2.5R7; Packing: Reel; Mounting Technology: Surface Mount; Code_JEDEC: MO-187-AA-T; ComponentLink1Description: Manufacturer URL; ComponentLink1URL: http://www.analog.com/en/index.html; ComponentLink2Description: Datasheet; ComponentLink2URL: http://www.analog.com/static/imported-files/data_sheets/ADP124_125.pdf; ComponentLink3Description: Package Specification; ComponentLink3URL: http://www.analog.com/static/imported-files/packages/PKG_PDF/MSOP_ED(RH)/RH_8_1.pdf; ComponentLink4Description: URL Link1; ComponentLink4URL: Product URL:http://www.analog.com/en/ADP124/productSearch.html
footprint ADI-RH-8-1_N (SOP, 8-Leads, Body 3x3mm, Pitch 0.65mm, Thermal Pad 1.73x2.16mm, IPC Medium Density)
footprint ADI-RH-8-1_L (SOP, 8-Leads, Body 3x3mm, Pitch 0.65mm, Thermal Pad 1.73x2.16mm, IPC High Density)
footprint ADI-RH-8-1_M (SOP, 8-Leads, Body 3x3mm, Pitch 0.65mm, Thermal Pad 1.73x2.16mm, IPC Low Density)
pins: 1 VOUT (power) "Regulated Output Voltage. Bypass VOUT to GND with a 1 uF or greater capacitor.", 2 VOUT (power) "Regulated Output Voltage. Bypass VOUT to GND with a 1 uF or greater capacitor.", 3 VOUT SENSE (in) "Feedback Node for the Error Amplifier. Connect to VOUT", 4 GND (power) "Ground.", 5 EN (in) "Enable Input. Drive EN high to turn on the regulator; drive EN low to turn off the regulator. For automatic startup, connect EN to VIN.", 6 NC "No Connect. This pin is not connected internally.", 7 VIN (power) "Regulator Input Supply. Bypass VIN to GND with a 1 uF or greater capacitor.", 8 VIN (power) "Regulator Input Supply. Bypass VIN to GND with a 1 uF or greater capacitor.", 9 EP (power) "The exposed pad must be connected to ground."

## ADP124ARHZ-2.7-R7
designator U?
500 mA, Low Quiescent Current, CMOS Linear Regulator, 2.3 to 5.5 V Vin, 2.7 V Vout, Industrial, 8-pin SOP (RH-8-1), Reel; Manufacturer: Analog Devices; PartNumber: ADP124ARHZ-2.7-R7; Iout max: 500mA; Preset Vout Values (V): 2.7; Supply Current IGND @ Small Load: 45uA; Vin (max) (V): 5.5; Vin (min) (V): 2.3; DatasheetVersion: Rev. C; PackageVersion: 071008-A, 08/2008; PackageReference: RH-8-1; PackageDescription: 8-Pin Mini Small Outline Package, Body 3 x 3 mm, Pitch 0.65 mm; Supplier 1: Digi-Key; Supplier Part Number 1: ADP124ARHZ-2.7-R7TR-ND; Supplier 2: Digi-Key; Supplier Part Number 2: ADP124ARHZ-2.7-R7CT-ND; Supplier 3: Digi-Key; Supplier Part Number 3: ADP124ARHZ-2.7-R7DKR-ND; Supplier 4: Mouser; Supplier Part Number 4: 584-ADP124ARHZ-2.7R7; Packing: Reel; Mounting Technology: Surface Mount; Code_JEDEC: MO-187-AA-T; ComponentLink1Description: Manufacturer URL; ComponentLink1URL: http://www.analog.com/en/index.html; ComponentLink2Description: Datasheet; ComponentLink2URL: http://www.analog.com/static/imported-files/data_sheets/ADP124_125.pdf; ComponentLink3Description: Package Specification; ComponentLink3URL: http://www.analog.com/static/imported-files/packages/PKG_PDF/MSOP_ED(RH)/RH_8_1.pdf; ComponentLink4Description: URL Link1; ComponentLink4URL: Product URL:http://www.analog.com/en/ADP124/productSearch.html
footprint ADI-RH-8-1_N (SOP, 8-Leads, Body 3x3mm, Pitch 0.65mm, Thermal Pad 1.73x2.16mm, IPC Medium Density)
footprint ADI-RH-8-1_L (SOP, 8-Leads, Body 3x3mm, Pitch 0.65mm, Thermal Pad 1.73x2.16mm, IPC High Density)
footprint ADI-RH-8-1_M (SOP, 8-Leads, Body 3x3mm, Pitch 0.65mm, Thermal Pad 1.73x2.16mm, IPC Low Density)
pins: 1 VOUT (power) "Regulated Output Voltage. Bypass VOUT to GND with a 1 uF or greater capacitor.", 2 VOUT (power) "Regulated Output Voltage. Bypass VOUT to GND with a 1 uF or greater capacitor.", 3 VOUT SENSE (in) "Feedback Node for the Error Amplifier. Connect to VOUT", 4 GND (power) "Ground.", 5 EN (in) "Enable Input. Drive EN high to turn on the regulator; drive EN low to turn off the regulator. For automatic startup, connect EN to VIN.", 6 NC "No Connect. This pin is not connected internally.", 7 VIN (power) "Regulator Input Supply. Bypass VIN to GND with a 1 uF or greater capacitor.", 8 VIN (power) "Regulator Input Supply. Bypass VIN to GND with a 1 uF or greater capacitor.", 9 EP (power) "The exposed pad must be connected to ground."

## ADP124ARHZ-2.8-R7
designator U?
500 mA, Low Quiescent Current, CMOS Linear Regulator, 2.3 to 5.5 V Vin, 2.8 V Vout, Industrial, 8-pin SOP (RH-8-1), Reel; Manufacturer: Analog Devices; PartNumber: ADP124ARHZ-2.8-R7; Iout max: 500mA; Preset Vout Values (V): 2.8; Supply Current IGND @ Small Load: 45uA; Vin (max) (V): 5.5; Vin (min) (V): 2.3; DatasheetVersion: Rev. C; PackageVersion: 071008-A, 08/2008; PackageReference: RH-8-1; PackageDescription: 8-Pin Mini Small Outline Package, Body 3 x 3 mm, Pitch 0.65 mm; Supplier 1: Digi-Key; Supplier Part Number 1: ADP124ARHZ-2.8-R7TR-ND; Supplier 2: Digi-Key; Supplier Part Number 2: ADP124ARHZ-2.8-R7CT-ND; Supplier 3: Digi-Key; Supplier Part Number 3: ADP124ARHZ-2.8-R7DKR-ND; Supplier 4: Mouser; Supplier Part Number 4: 584-ADP124ARHZ-2.8R7; Packing: Reel; Mounting Technology: Surface Mount; Code_JEDEC: MO-187-AA-T; ComponentLink1Description: Manufacturer URL; ComponentLink1URL: http://www.analog.com/en/index.html; ComponentLink2Description: Datasheet; ComponentLink2URL: http://www.analog.com/static/imported-files/data_sheets/ADP124_125.pdf; ComponentLink3Description: Package Specification; ComponentLink3URL: http://www.analog.com/static/imported-files/packages/PKG_PDF/MSOP_ED(RH)/RH_8_1.pdf; ComponentLink4Description: URL Link1; ComponentLink4URL: Product URL:http://www.analog.com/en/ADP124/productSearch.html
footprint ADI-RH-8-1_N (SOP, 8-Leads, Body 3x3mm, Pitch 0.65mm, Thermal Pad 1.73x2.16mm, IPC Medium Density)
footprint ADI-RH-8-1_L (SOP, 8-Leads, Body 3x3mm, Pitch 0.65mm, Thermal Pad 1.73x2.16mm, IPC High Density)
footprint ADI-RH-8-1_M (SOP, 8-Leads, Body 3x3mm, Pitch 0.65mm, Thermal Pad 1.73x2.16mm, IPC Low Density)
pins: 1 VOUT (power) "Regulated Output Voltage. Bypass VOUT to GND with a 1 uF or greater capacitor.", 2 VOUT (power) "Regulated Output Voltage. Bypass VOUT to GND with a 1 uF or greater capacitor.", 3 VOUT SENSE (in) "Feedback Node for the Error Amplifier. Connect to VOUT", 4 GND (power) "Ground.", 5 EN (in) "Enable Input. Drive EN high to turn on the regulator; drive EN low to turn off the regulator. For automatic startup, connect EN to VIN.", 6 NC "No Connect. This pin is not connected internally.", 7 VIN (power) "Regulator Input Supply. Bypass VIN to GND with a 1 uF or greater capacitor.", 8 VIN (power) "Regulator Input Supply. Bypass VIN to GND with a 1 uF or greater capacitor.", 9 EP (power) "The exposed pad must be connected to ground."

## ADP124ARHZ-2.9-R7
designator U?
500 mA, Low Quiescent Current, CMOS Linear Regulator, 2.3 to 5.5 V Vin, 2.9 V Vout, Industrial, 8-pin SOP (RH-8-1), Reel; Manufacturer: Analog Devices; PartNumber: ADP124ARHZ-2.9-R7; Iout max: 500mA; Preset Vout Values (V): 2.9; Supply Current IGND @ Small Load: 45uA; Vin (max) (V): 5.5; Vin (min) (V): 2.3; DatasheetVersion: Rev. C; PackageVersion: 071008-A, 08/2008; PackageReference: RH-8-1; PackageDescription: 8-Pin Mini Small Outline Package, Body 3 x 3 mm, Pitch 0.65 mm; Supplier 1: Digi-Key; Supplier Part Number 1: ADP124ARHZ-2.9-R7TR-ND; Supplier 2: Digi-Key; Supplier Part Number 2: ADP124ARHZ-2.9-R7CT-ND; Supplier 3: Digi-Key; Supplier Part Number 3: ADP124ARHZ-2.9-R7DKR-ND; Supplier 4: Mouser; Supplier Part Number 4: 584-ADP124ARHZ-2.9R7; Packing: Reel; Mounting Technology: Surface Mount; Code_JEDEC: MO-187-AA-T; ComponentLink1Description: Manufacturer URL; ComponentLink1URL: http://www.analog.com/en/index.html; ComponentLink2Description: Datasheet; ComponentLink2URL: http://www.analog.com/static/imported-files/data_sheets/ADP124_125.pdf; ComponentLink3Description: Package Specification; ComponentLink3URL: http://www.analog.com/static/imported-files/packages/PKG_PDF/MSOP_ED(RH)/RH_8_1.pdf; ComponentLink4Description: URL Link1; ComponentLink4URL: Product URL:http://www.analog.com/en/ADP124/productSearch.html
footprint ADI-RH-8-1_N (SOP, 8-Leads, Body 3x3mm, Pitch 0.65mm, Thermal Pad 1.73x2.16mm, IPC Medium Density)
footprint ADI-RH-8-1_L (SOP, 8-Leads, Body 3x3mm, Pitch 0.65mm, Thermal Pad 1.73x2.16mm, IPC High Density)
footprint ADI-RH-8-1_M (SOP, 8-Leads, Body 3x3mm, Pitch 0.65mm, Thermal Pad 1.73x2.16mm, IPC Low Density)
pins: 1 VOUT (power) "Regulated Output Voltage. Bypass VOUT to GND with a 1 uF or greater capacitor.", 2 VOUT (power) "Regulated Output Voltage. Bypass VOUT to GND with a 1 uF or greater capacitor.", 3 VOUT SENSE (in) "Feedback Node for the Error Amplifier. Connect to VOUT", 4 GND (power) "Ground.", 5 EN (in) "Enable Input. Drive EN high to turn on the regulator; drive EN low to turn off the regulator. For automatic startup, connect EN to VIN.", 6 NC "No Connect. This pin is not connected internally.", 7 VIN (power) "Regulator Input Supply. Bypass VIN to GND with a 1 uF or greater capacitor.", 8 VIN (power) "Regulator Input Supply. Bypass VIN to GND with a 1 uF or greater capacitor.", 9 EP (power) "The exposed pad must be connected to ground."

## ADP124ARHZ-2.85-R7
designator U?
500 mA, Low Quiescent Current, CMOS Linear Regulator, 2.3 to 5.5 V Vin, 2.85 V Vout, Industrial, 8-pin SOP (RH-8-1), Reel; Manufacturer: Analog Devices; PartNumber: ADP124ARHZ-2.85-R7; Iout max: 500mA; Preset Vout Values (V): 2.85; Supply Current IGND @ Small Load: 45uA; Vin (max) (V): 5.5; Vin (min) (V): 2.3; DatasheetVersion: Rev. C; PackageVersion: 071008-A, 08/2008; PackageReference: RH-8-1; PackageDescription: 8-Pin Mini Small Outline Package, Body 3 x 3 mm, Pitch 0.65 mm; Supplier 1: Digi-Key; Supplier Part Number 1: ADP124ARHZ-2.85-R7TR-ND; Supplier 2: Digi-Key; Supplier Part Number 2: ADP124ARHZ-2.85-R7CT-ND; Supplier 3: Digi-Key; Supplier Part Number 3: ADP124ARHZ-2.85-R7DKR-ND; Supplier 4: Mouser; Supplier Part Number 4: 584-ADP124ARHZ2.85R7; Packing: Reel; Mounting Technology: Surface Mount; Code_JEDEC: MO-187-AA-T; ComponentLink1Description: Manufacturer URL; ComponentLink1URL: http://www.analog.com/en/index.html; ComponentLink2Description: Datasheet; ComponentLink2URL: http://www.analog.com/static/imported-files/data_sheets/ADP124_125.pdf; ComponentLink3Description: Package Specification; ComponentLink3URL: http://www.analog.com/static/imported-files/packages/PKG_PDF/MSOP_ED(RH)/RH_8_1.pdf; ComponentLink4Description: URL Link1; ComponentLink4URL: Product URL:http://www.analog.com/en/ADP124/productSearch.html
footprint ADI-RH-8-1_N (SOP, 8-Leads, Body 3x3mm, Pitch 0.65mm, Thermal Pad 1.73x2.16mm, IPC Medium Density)
footprint ADI-RH-8-1_L (SOP, 8-Leads, Body 3x3mm, Pitch 0.65mm, Thermal Pad 1.73x2.16mm, IPC High Density)
footprint ADI-RH-8-1_M (SOP, 8-Leads, Body 3x3mm, Pitch 0.65mm, Thermal Pad 1.73x2.16mm, IPC Low Density)
pins: 1 VOUT (power) "Regulated Output Voltage. Bypass VOUT to GND with a 1 uF or greater capacitor.", 2 VOUT (power) "Regulated Output Voltage. Bypass VOUT to GND with a 1 uF or greater capacitor.", 3 VOUT SENSE (in) "Feedback Node for the Error Amplifier. Connect to VOUT", 4 GND (power) "Ground.", 5 EN (in) "Enable Input. Drive EN high to turn on the regulator; drive EN low to turn off the regulator. For automatic startup, connect EN to VIN.", 6 NC "No Connect. This pin is not connected internally.", 7 VIN (power) "Regulator Input Supply. Bypass VIN to GND with a 1 uF or greater capacitor.", 8 VIN (power) "Regulator Input Supply. Bypass VIN to GND with a 1 uF or greater capacitor.", 9 EP (power) "The exposed pad must be connected to ground."

## ADP124ARHZ-3.0-R7
designator U?
500 mA, Low Quiescent Current, CMOS Linear Regulator, 2.3 to 5.5 V Vin, 3 V Vout, Industrial, 8-pin SOP (RH-8-1), Reel; Manufacturer: Analog Devices; PartNumber: ADP124ARHZ-3.0-R7; Iout max: 500mA; Preset Vout Values (V): 3.0; Supply Current IGND @ Small Load: 45uA; Vin (max) (V): 5.5; Vin (min) (V): 2.3; DatasheetVersion: Rev. C; PackageVersion: 071008-A, 08/2008; PackageReference: RH-8-1; PackageDescription: 8-Pin Mini Small Outline Package, Body 3 x 3 mm, Pitch 0.65 mm; Supplier 1: Digi-Key; Supplier Part Number 1: ADP124ARHZ-3.0-R7TR-ND; Supplier 2: Digi-Key; Supplier Part Number 2: ADP124ARHZ-3.0-R7CT-ND; Supplier 3: Digi-Key; Supplier Part Number 3: ADP124ARHZ-3.0-R7DKR-ND; Supplier 4: Mouser; Supplier Part Number 4: 584-ADP124ARHZ-3.0R7; Packing: Reel; Mounting Technology: Surface Mount; Code_JEDEC: MO-187-AA-T; ComponentLink1Description: Manufacturer URL; ComponentLink1URL: http://www.analog.com/en/index.html; ComponentLink2Description: Datasheet; ComponentLink2URL: http://www.analog.com/static/imported-files/data_sheets/ADP124_125.pdf; ComponentLink3Description: Package Specification; ComponentLink3URL: http://www.analog.com/static/imported-files/packages/PKG_PDF/MSOP_ED(RH)/RH_8_1.pdf; ComponentLink4Description: URL Link1; ComponentLink4URL: Product URL:http://www.analog.com/en/ADP124/productSearch.html
footprint ADI-RH-8-1_N (SOP, 8-Leads, Body 3x3mm, Pitch 0.65mm, Thermal Pad 1.73x2.16mm, IPC Medium Density)
footprint ADI-RH-8-1_L (SOP, 8-Leads, Body 3x3mm, Pitch 0.65mm, Thermal Pad 1.73x2.16mm, IPC High Density)
footprint ADI-RH-8-1_M (SOP, 8-Leads, Body 3x3mm, Pitch 0.65mm, Thermal Pad 1.73x2.16mm, IPC Low Density)
pins: 1 VOUT (power) "Regulated Output Voltage. Bypass VOUT to GND with a 1 uF or greater capacitor.", 2 VOUT (power) "Regulated Output Voltage. Bypass VOUT to GND with a 1 uF or greater capacitor.", 3 VOUT SENSE (in) "Feedback Node for the Error Amplifier. Connect to VOUT", 4 GND (power) "Ground.", 5 EN (in) "Enable Input. Drive EN high to turn on the regulator; drive EN low to turn off the regulator. For automatic startup, connect EN to VIN.", 6 NC "No Connect. This pin is not connected internally.", 7 VIN (power) "Regulator Input Supply. Bypass VIN to GND with a 1 uF or greater capacitor.", 8 VIN (power) "Regulator Input Supply. Bypass VIN to GND with a 1 uF or greater capacitor.", 9 EP (power) "The exposed pad must be connected to ground."